# EAGLE library part USB-C (library OSDK_USB-C-2)
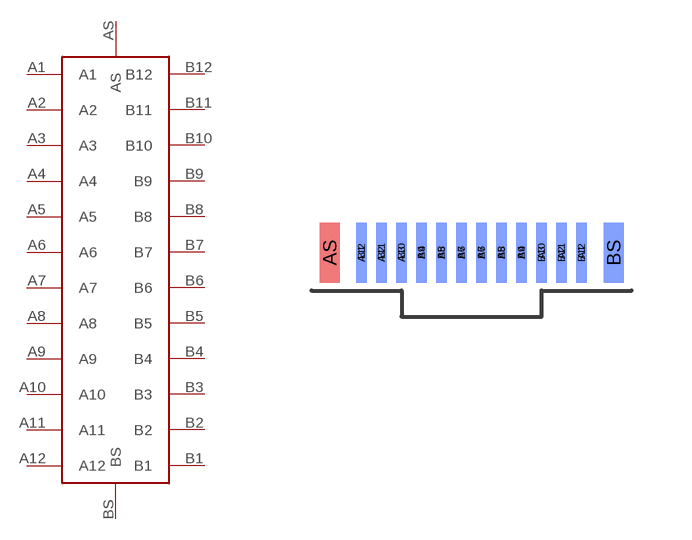
[diagram p0: symbol with the pads of USB-C; footprint USB-C]

Designator prefix -

## USB-C  [USB-C]
A1  A1
A2  A2
A3  A3
A4  A4
A5  A5
A6  A6
A7  A7
A8  A8
A9  A9
A10  A10
A11  A11
A12  A12
AS  AS
B1  B1
B2  B2
B3  B3
B4  B4
B5  B5
B6  B6
B7  B7
B8  B8
B9  B9
B10  B10
B11  B11
B12  B12
BS  BS

## Footprint USB-C (pad centres in mm)
smd 0.26 x 1.5: A1 2.75,0.95; A2 2.25,0.95; A3 1.75,0.95; A4 1.25,0.95; A5 0.75,0.95; A6 0.25,0.95; A7 -0.25,0.95; A8 -0.75,0.95; A9 -1.25,0.95; A10 -1.75,0.95; A11 -2.25,0.95; A12 -2.75,0.95
smd 0.5 x 1.5: AS -3.55,0.95
smd 0.26 x 1.5 bottom: B1 -2.75,0.95; B2 -2.25,0.95; B3 -1.75,0.95; B4 -1.25,0.95; B5 -0.75,0.95; B6 -0.25,0.95; B7 0.25,0.95; B8 0.75,0.95; B9 1.25,0.95; B10 1.75,0.95; B11 2.25,0.95; B12 2.75,0.95
smd 0.5 x 1.5 bottom: BS 3.55,0.95